# EAGLE library part PFS704-729EG (library power_integrations)
The HiperPFS device family members incorporate a continuous conduction mode (CCM) boost PFC controller, gate driver, and high voltage power MOSFET in a single, low-profile eSIP™ power package that is able to provide near unity input power factor. The HiperPFS devices eliminate the PFC converter’s need for external current sense resistors, the power loss associated with those components, and leverages an innovative control technique that adjusts the switching frequency over output load, input line voltage, and even input line cycle. This control technique is designed to maximize efficiency over the entire load range of the converter, particularly at light loads. Additionally, this control technique significantly minimizes the EMI filtering requirements due to its wide-bandwidth spread spectrum effect. HiperPFS includes Power Integrations’ standard set of comprehensive protection features, such as integrated soft-start, UV, OV, brown-in/out, and hysteretic thermal shutdown. HiperPFS also provides cycle-by-cycle current limit for the power MOSFET, power limiting of the output for overload protection, and pin-to-pin short-circuit protection.
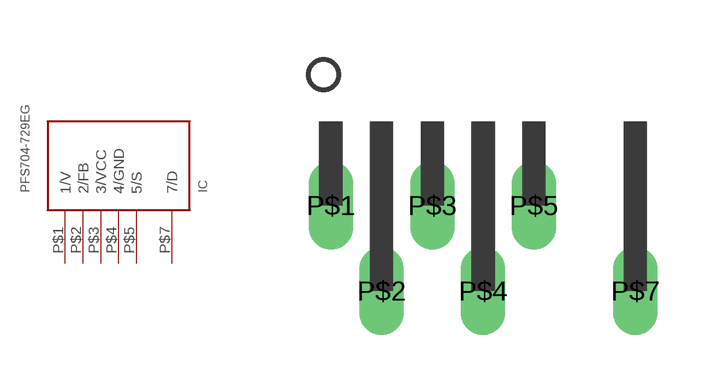
[diagram p2: symbol with the pads of SIP-E-7F(L_PACKAGE); footprint SIP-E-7F(L_PACKAGE)]

Designator prefix IC

## PFS704-729EG  [SIP-E-7F(L_PACKAGE)]
P$1  1/V
P$2  2/FB
P$3  3/VCC  pwr
P$4  4/GND  pwr
P$5  5/S
P$7  7/D

## Footprint SIP-E-7F(L_PACKAGE) (pad centres in mm)
drill 0.6 long: P$1 -3.81,-2.1; P$2 -2.54,-4.24; P$3 -1.27,-2.1; P$4 0,-4.24; P$5 1.27,-2.1; P$7 3.81,-4.24